# Altium footprint library SC-79.PcbLib: 1 footprints
Each footprint in its own frame and in the unit in brackets; x right, y up, seen from the top. Pads: shape width x height; smd on the part's side, far side on the other; paste and mask are expansions set on the pad; w line width, h text height; cw(c..) or ccw(c..) is an arc to the next point about the centre after c.
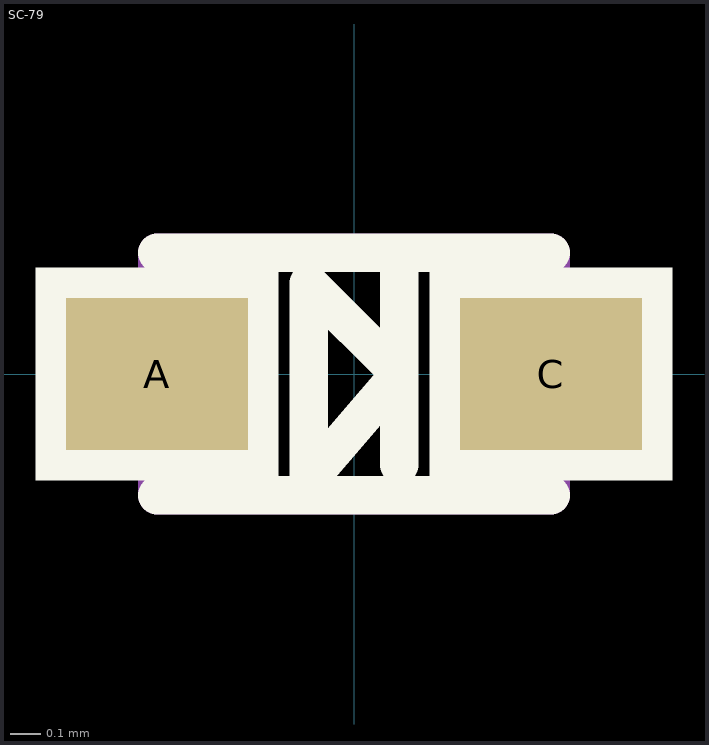
[diagram p0: the footprint, top view; thin cyan lines are the x and y axes]

## SC-79 [mm]
pads (2):
  rect 0.6x0.5 smd paste-25.4 mask-25.4: A(-0.65,0) C(0.65,0)
Top Overlay:
  region: 0.25,-0.35 1.05,-0.35 1.05,0.35 0.25,0.35
  region: -1.05,-0.35 -0.25,-0.35 -0.25,0.35 -1.05,0.35
  lines w0.127: -0.65,-0.4 0.65,-0.4 ; -0.65,0.4 0.65,0.4 ; 0.15,-0.3 0.15,0 ; 0.15,0.35 0.15,0 ; 0.15,0 -0.15,-0.35 -0.15,0.3 0.15,0
Top Paste:
  region: -0.95,-0.25 -0.35,-0.25 -0.35,0.25 -0.95,0.25
  region: 0.35,-0.25 0.95,-0.25 0.95,0.25 0.35,0.25
Mechanical 1:
  lines w0.127: -0.65,-0.4 0.65,-0.4 0.65,0.4 -0.65,0.4 -0.65,-0.4